# EAGLE library part MAX3226_MAX3227 (library m-pad-2.1)
Maxim's MAX3224-MAX3245 ±15kV ESD-Protected, 1?A, 1Mbps, 3.0V to 5.5V, RS-232 Transceivers with AutoShutdown Plus Description: The MAX3224E/MAX3225E/MAX3226E/MAX3227E/ MAX3244E/MAX3245E are 3V-powered EIA/TIA-232 and V.28/V.24 communications interfaces with automatic shutdown/wakeup features, high data-rate capabilities, and enhanced electrostatic discharge (ESD) protection. All transmitter outputs and receiver inputs are protected to ±15kV using IEC 1000-4-2 Air-Gap Discharge, ±8kV using IEC 1000-4-2 Contact Discharge, and ±15kV using the Human Body Model. All devices achieve a 1µA supply current using Maxim's revolutionary AutoShutdown Plus feature. These devices automatically enter a low-power shutdown mode when the RS-232 cable is disconnected or the transmitters of the connected peripherals are inactive, and the UART driving the transmitter inputs is inactive for more than 30 seconds. They turn on again when they sense a valid transition at any transmitter or receiver input. AutoShutdown Plus saves power without hanges to the existing BIOS or operating system. The MAX3225E/MAX3227E/MAX3245E also feature MegaBaud oper ation, guaranteeing 1Mbps for highspeed applications such as communicating with ISDN modems. The MAX3224E/MAX3226E/MAX3244E guarantee 250kbps operation. The transceivers have a proprietary low-dropout transmitter output stage enabling true RS-232 performance from a +3.0V to +5.5V supply with a dual charge pump. The charge pump requires only four small 0.1µF capacitors for operation from a 3.3V supply. The MAX3224E-MAX3227E feature a logiclevel output (READY) that asserts when the charge pump is regulating and the device is ready to begin transmitting. All devices are available in a space-saving SSOP and TSSOP (MAX3224E/MAX3225E/MAX3244E/MAX3245E) packages. Features: For Space-Constrained Applications: MAX3228E/MAX3229E: ±15kV ESD-Protected, +2.5V to +5.5V, RS-232 Transceivers in UCSP MAX3222E/MAX3232E/MAX3241E/MAX3246E: ±15kV ESD-Protected, Down to 10nA, +3.0V to +5.5V, Up to 1Mbps, True RS-232 Transceivers (MAX3246E Available in UCSP) For Low-Voltage or Data Cable Applications: MAX3380E/MAX3381E: +2.35V to +5.5V, 1µA, 2Tx/2Rx RS-232 Transceivers with ±15kV ESD-Protected I/O and Logic Pins Applications: Notebook, Subnotebook, and Palmtop Computers Cellular Phones Battery-Powered Equipment Hand-Held Equipment Peripherals Printers Please send any comments to: messi@users.sourceforge.net
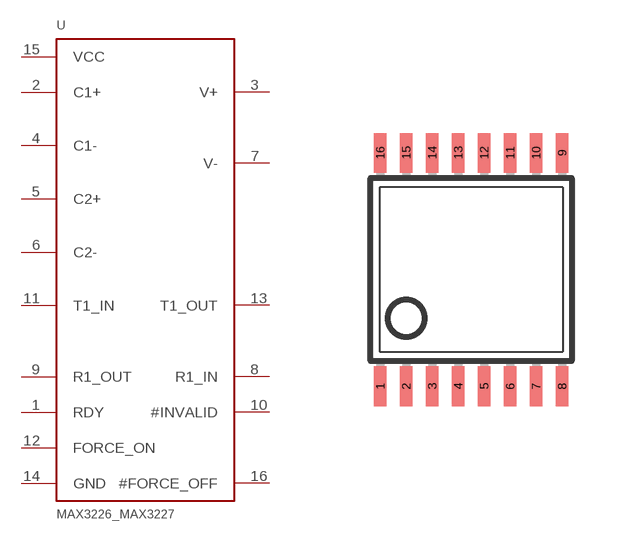
[diagram p81: symbol with the pads of TSSOP16; footprint TSSOP16]

Designator prefix U

## MAX3226_MAX3227  [TSSOP16]
1  RDY  out
2  C1+  in
3  V+  in
4  C1-  in
5  C2+  in
6  C2-  in
7  V-  in
8  R1_IN  in
9  R1_OUT  out
10  #INVALID  out
11  T1_IN  in
12  FORCE_ON  in
13  T1_OUT  in
14  GND  in
15  VCC  in
16  #FORCE_OFF  in

## Footprint TSSOP16 (pad centres in mm)
Thin Shrink Small Outline Plastic 16 MAX3223-MAX3243.pdf
smd 0.305 x 0.991: 1 -2.275,-2.918; 2 -1.625,-2.918; 3 -0.975,-2.918; 4 -0.325,-2.918; 5 0.325,-2.918; 6 0.975,-2.918; 7 1.625,-2.918; 8 2.275,-2.918; 9 2.275,2.918; 10 1.625,2.918; 11 0.975,2.918; 12 0.325,2.918; 13 -0.325,2.918; 14 -0.975,2.918; 15 -1.625,2.918; 16 -2.275,2.918